# Altium schematic symbol library RT9193-33GB.SchLib: 1 symbol
Pins are listed as number, name and electrical type; pins without a type are passive.

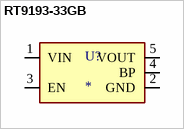
[diagram p0: symbol RT9193-33GB]

## RT9193-33GB
designator U?
Linear Voltage Regulator IC Positive Fixed 1 Output  300mA SOT-23-5; MF: Richtek Technology Corp; MP: RT919333GB; SnapEDA_Link: https://www.snapeda.com/parts/RT919333GB/Richtek/view-part/?ref=snap; Package: SOT-23-5 Richtek; Value: *; Check_prices: https://www.snapeda.com/parts/RT919333GB/Richtek/view-part/?ref=eda
footprint SOT23-5_TEXAS_INSTRUMETNS
pins: 1 VIN (io), 2 GND (io), 3 EN (io), 4 BP (io), 5 VOUT (io)